# Altium footprint library pinheader1x4.PcbLib: 2 footprints
Each footprint in its own frame and in the unit in brackets; x right, y up, seen from the top. Pads: shape width x height; smd on the part's side, far side on the other; paste and mask are expansions set on the pad; w line width, h text height; cw(c..) or ccw(c..) is an arc to the next point about the centre after c.
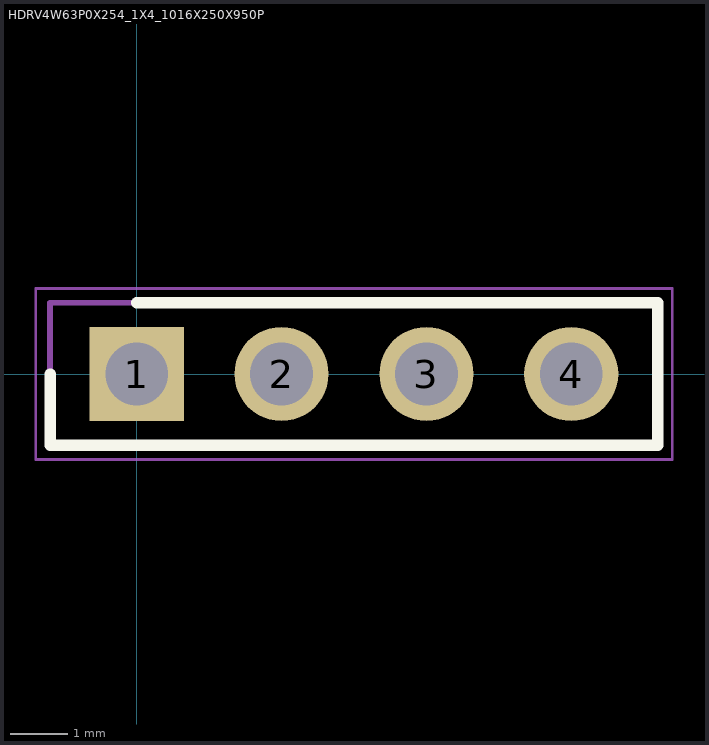
[diagram p0: the footprints below, top view; thin cyan lines are the x and y axes]

## HDRV4W63P0X254_1X4_1016X250X950P [mm]
pads (4):
  rect 1.65x1.65 hole 1.1: 1(0,0)
  round 1.65 hole 1.1: 2(2.54,0) 3(5.08,0) 4(7.62,0)
Top Overlay:
  lines w0.2: -1.52,0 -1.52,-1.25 9.14,-1.25 9.14,1.25 0,1.25
Mechanical 13:
  lines w0.1: -1.52,-1.25 -1.52,1.25 9.14,1.25 9.14,-1.25 -1.52,-1.25
Mechanical 15:
  lines w0.05: -1.77,-1.5 -1.77,1.5 9.39,1.5 9.39,-1.5 -1.77,-1.5

## PCBComponent_1 [mm]